# Altium schematic symbol library MCU_Microchip_PIC18.SchLib: 173 symbols (part 4 of 4)
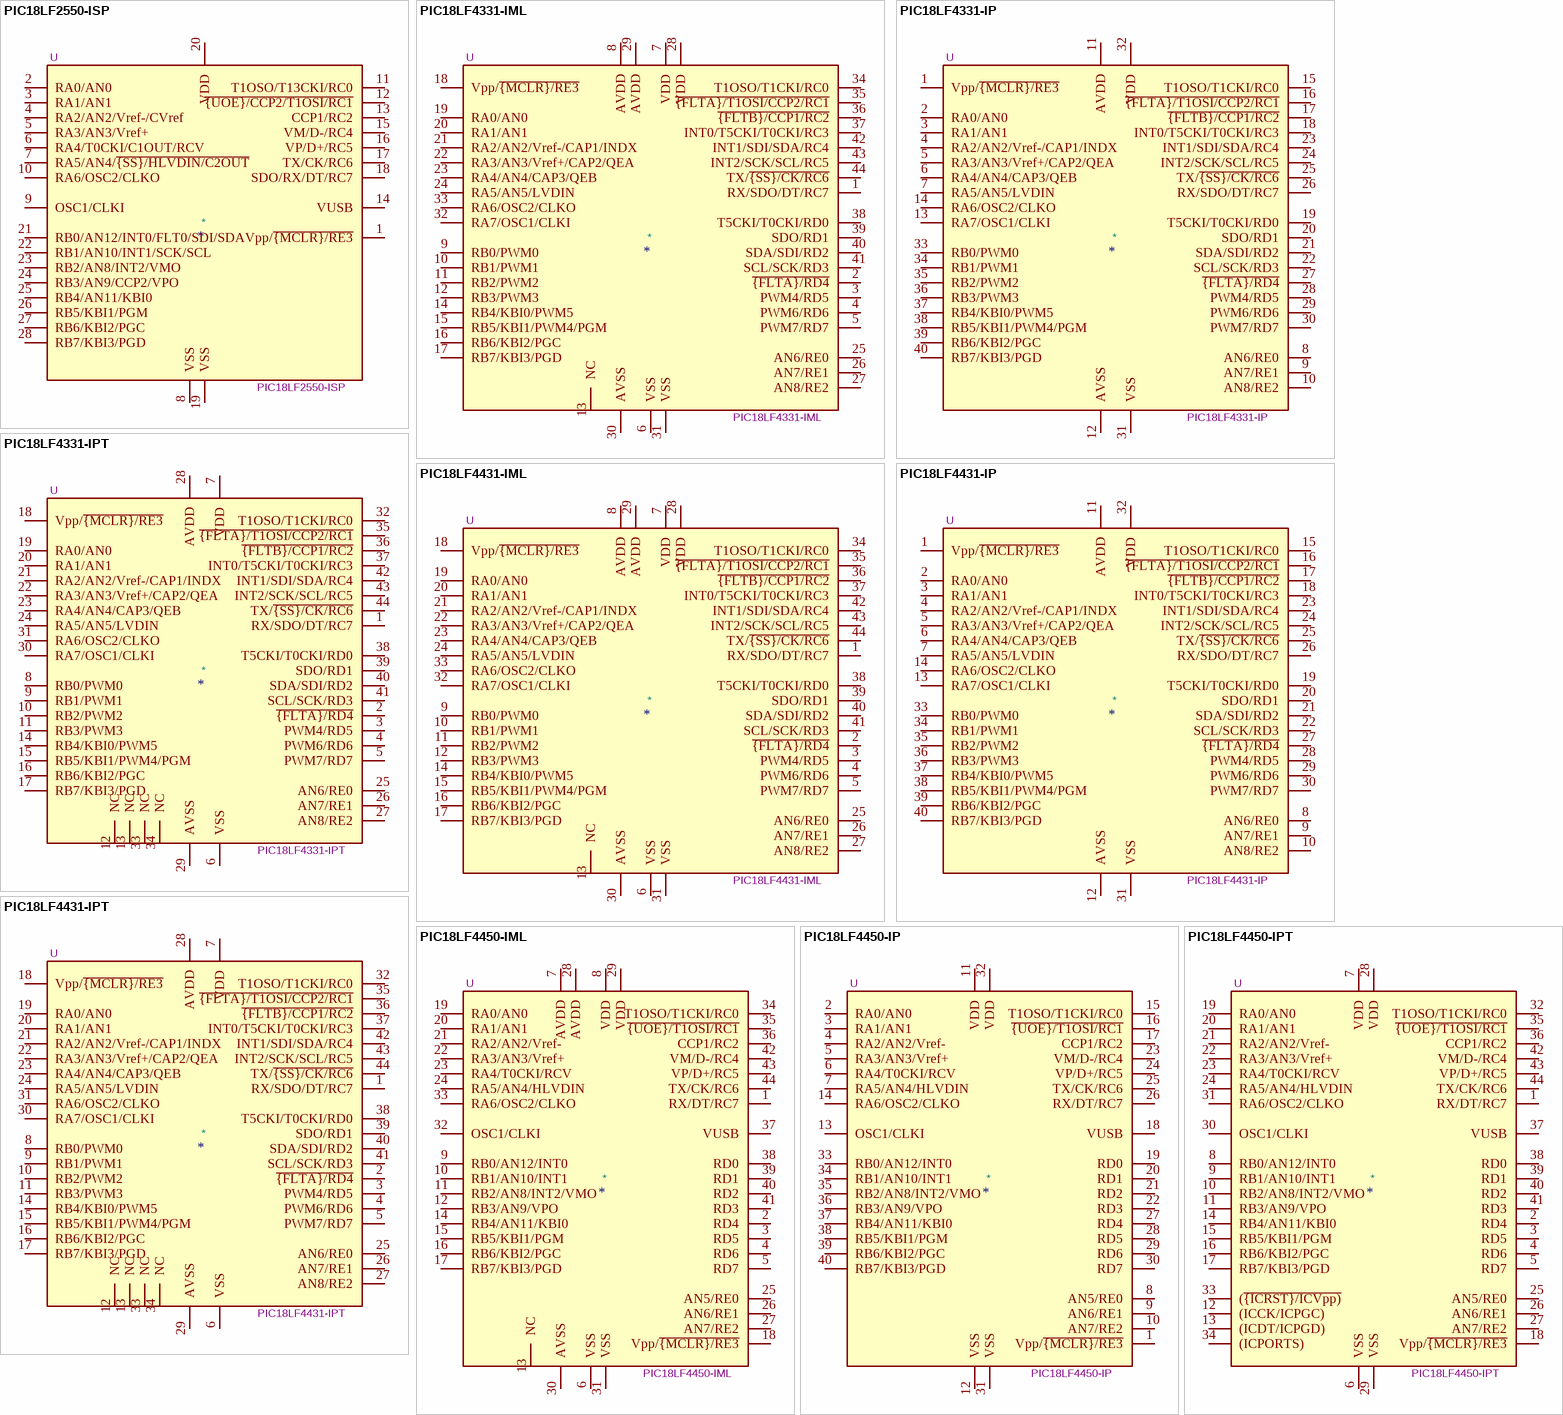
[diagram p19: symbols PIC18LF2550-ISP to PIC18LF4450-IPT]

## PIC18LF4331-IP
designator *  value PIC18LF4331-IP  Reference: U
8K Flash, 768B SRAM, 256B EEPROM, nanoWatt XLP, ADC, PWM, DIP40; ki_keywords: Flash-Based 8-Bit Microcontroller XLP; ki_fp_filters: DIP*W15.24* PDIP*W15.24*; Footprint: Package_DIP:DIP-40_W15.24mm; Datasheet: http://ww1.microchip.com/downloads/en/DeviceDoc/39616d.pdf; Description_: 8K Flash, 768B SRAM, 256B EEPROM, nanoWatt XLP, ADC, PWM, DIP40
pins: 1 Vpp/~{{MCLR}/RE3}, 2 RA0/AN0, 3 RA1/AN1, 4 RA2/AN2/Vref-/CAP1/INDX, 5 RA3/AN3/Vref+/CAP2/QEA, 6 RA4/AN4/CAP3/QEB, 7 RA5/AN5/LVDIN, 8 AN6/RE0, 9 AN7/RE1, 10 AN8/RE2, 11 AVDD, 12 AVSS, 13 RA7/OSC1/CLKI, 14 RA6/OSC2/CLKO, 15 T1OSO/T1CKI/RC0, 16 ~{{FLTA}/T1OSI/CCP2/RC1}, 17 ~{{FLTB}/CCP1/RC2}, 18 INT0/T5CKI/T0CKI/RC3, 19 T5CKI/T0CKI/RD0, 20 SDO/RD1, 21 SDA/SDI/RD2, 22 SCL/SCK/RD3, 23 INT1/SDI/SDA/RC4, 24 INT2/SCK/SCL/RC5, 25 TX/~{{SS}/CK/RC6}, 26 RX/SDO/DT/RC7, 27 ~{{FLTA}/RD4}, 28 PWM4/RD5, 29 PWM6/RD6, 30 PWM7/RD7, 31 VSS, 32 VDD, 33 RB0/PWM0, 34 RB1/PWM1, 35 RB2/PWM2, 36 RB3/PWM3, 37 RB4/KBI0/PWM5, 38 RB5/KBI1/PWM4/PGM, 39 RB6/KBI2/PGC, 40 RB7/KBI3/PGD

## PIC18LF4331-IPT
designator *  value PIC18LF4331-IPT  Reference: U
8K Flash, 768B SRAM, 256B EEPROM, nanoWatt XLP, ADC, PWM, TQFP44; ki_keywords: Flash-Based 8-Bit Microcontroller XLP; ki_fp_filters: TQFP*10x10mm*P0.8mm*; Footprint: Package_QFP:TQFP-44_10x10mm_P0.8mm; Datasheet: http://ww1.microchip.com/downloads/en/DeviceDoc/39616d.pdf; Description_: 8K Flash, 768B SRAM, 256B EEPROM, nanoWatt XLP, ADC, PWM, TQFP44
pins: 1 RX/SDO/DT/RC7, 2 ~{{FLTA}/RD4}, 3 PWM4/RD5, 4 PWM6/RD6, 5 PWM7/RD7, 6 VSS, 7 VDD, 8 RB0/PWM0, 9 RB1/PWM1, 10 RB2/PWM2, 11 RB3/PWM3, 12 NC, 13 NC, 14 RB4/KBI0/PWM5, 15 RB5/KBI1/PWM4/PGM, 16 RB6/KBI2/PGC, 17 RB7/KBI3/PGD, 18 Vpp/~{{MCLR}/RE3}, 19 RA0/AN0, 20 RA1/AN1, 21 RA2/AN2/Vref-/CAP1/INDX, 22 RA3/AN3/Vref+/CAP2/QEA, 23 RA4/AN4/CAP3/QEB, 24 RA5/AN5/LVDIN, 25 AN6/RE0, 26 AN7/RE1, 27 AN8/RE2, 28 AVDD, 29 AVSS, 30 RA7/OSC1/CLKI, 31 RA6/OSC2/CLKO, 32 T1OSO/T1CKI/RC0, 33 NC, 34 NC, 35 ~{{FLTA}/T1OSI/CCP2/RC1}, 36 ~{{FLTB}/CCP1/RC2}, 37 INT0/T5CKI/T0CKI/RC3, 38 T5CKI/T0CKI/RD0, 39 SDO/RD1, 40 SDA/SDI/RD2, 41 SCL/SCK/RD3, 42 INT1/SDI/SDA/RC4, 43 INT2/SCK/SCL/RC5, 44 TX/~{{SS}/CK/RC6}

## PIC18LF4431-IML
designator *  value PIC18LF4431-IML  Reference: U
16K Flash, 768B SRAM, 256B EEPROM, nanoWatt XLP, ADC, PWM, QFN44; ki_keywords: Flash-Based 8-Bit Microcontroller XLP; ki_fp_filters: QFN*1EP*8x8mm*P0.65mm*; Footprint: Package_DFN_QFN:QFN-44-1EP_8x8mm_P0.65mm_EP6.45x6.45mm; Datasheet: http://ww1.microchip.com/downloads/en/DeviceDoc/39616d.pdf; Description_: 16K Flash, 768B SRAM, 256B EEPROM, nanoWatt XLP, ADC, PWM, QFN44
pins: 1 RX/SDO/DT/RC7, 2 ~{{FLTA}/RD4}, 3 PWM4/RD5, 4 PWM6/RD6, 5 PWM7/RD7, 6 VSS, 7 VDD, 8 AVDD, 9 RB0/PWM0, 10 RB1/PWM1, 11 RB2/PWM2, 12 RB3/PWM3, 13 NC, 14 RB4/KBI0/PWM5, 15 RB5/KBI1/PWM4/PGM, 16 RB6/KBI2/PGC, 17 RB7/KBI3/PGD, 18 Vpp/~{{MCLR}/RE3}, 19 RA0/AN0, 20 RA1/AN1, 21 RA2/AN2/Vref-/CAP1/INDX, 22 RA3/AN3/Vref+/CAP2/QEA, 23 RA4/AN4/CAP3/QEB, 24 RA5/AN5/LVDIN, 25 AN6/RE0, 26 AN7/RE1, 27 AN8/RE2, 28 VDD, 29 AVDD, 30 AVSS, 31 VSS, 32 RA7/OSC1/CLKI, 33 RA6/OSC2/CLKO, 34 T1OSO/T1CKI/RC0, 35 ~{{FLTA}/T1OSI/CCP2/RC1}, 36 ~{{FLTB}/CCP1/RC2}, 37 INT0/T5CKI/T0CKI/RC3, 38 T5CKI/T0CKI/RD0, 39 SDO/RD1, 40 SDA/SDI/RD2, 41 SCL/SCK/RD3, 42 INT1/SDI/SDA/RC4, 43 INT2/SCK/SCL/RC5, 44 TX/~{{SS}/CK/RC6}

## PIC18LF4431-IP
designator *  value PIC18LF4431-IP  Reference: U
16K Flash, 768B SRAM, 256B EEPROM, nanoWatt XLP, ADC, PWM, DIP40; ki_keywords: Flash-Based 8-Bit Microcontroller XLP; ki_fp_filters: DIP*W15.24* PDIP*W15.24*; Footprint: Package_DIP:DIP-40_W15.24mm; Datasheet: http://ww1.microchip.com/downloads/en/DeviceDoc/39616d.pdf; Description_: 16K Flash, 768B SRAM, 256B EEPROM, nanoWatt XLP, ADC, PWM, DIP40
pins: 1 Vpp/~{{MCLR}/RE3}, 2 RA0/AN0, 3 RA1/AN1, 4 RA2/AN2/Vref-/CAP1/INDX, 5 RA3/AN3/Vref+/CAP2/QEA, 6 RA4/AN4/CAP3/QEB, 7 RA5/AN5/LVDIN, 8 AN6/RE0, 9 AN7/RE1, 10 AN8/RE2, 11 AVDD, 12 AVSS, 13 RA7/OSC1/CLKI, 14 RA6/OSC2/CLKO, 15 T1OSO/T1CKI/RC0, 16 ~{{FLTA}/T1OSI/CCP2/RC1}, 17 ~{{FLTB}/CCP1/RC2}, 18 INT0/T5CKI/T0CKI/RC3, 19 T5CKI/T0CKI/RD0, 20 SDO/RD1, 21 SDA/SDI/RD2, 22 SCL/SCK/RD3, 23 INT1/SDI/SDA/RC4, 24 INT2/SCK/SCL/RC5, 25 TX/~{{SS}/CK/RC6}, 26 RX/SDO/DT/RC7, 27 ~{{FLTA}/RD4}, 28 PWM4/RD5, 29 PWM6/RD6, 30 PWM7/RD7, 31 VSS, 32 VDD, 33 RB0/PWM0, 34 RB1/PWM1, 35 RB2/PWM2, 36 RB3/PWM3, 37 RB4/KBI0/PWM5, 38 RB5/KBI1/PWM4/PGM, 39 RB6/KBI2/PGC, 40 RB7/KBI3/PGD

## PIC18LF4431-IPT
designator *  value PIC18LF4431-IPT  Reference: U
16K Flash, 768B SRAM, 256B EEPROM, nanoWatt XLP, ADC, PWM, TQFP44; ki_keywords: Flash-Based 8-Bit Microcontroller XLP; ki_fp_filters: TQFP*10x10mm*P0.8mm*; Footprint: Package_QFP:TQFP-44_10x10mm_P0.8mm; Datasheet: http://ww1.microchip.com/downloads/en/DeviceDoc/39616d.pdf; Description_: 16K Flash, 768B SRAM, 256B EEPROM, nanoWatt XLP, ADC, PWM, TQFP44
pins: 1 RX/SDO/DT/RC7, 2 ~{{FLTA}/RD4}, 3 PWM4/RD5, 4 PWM6/RD6, 5 PWM7/RD7, 6 VSS, 7 VDD, 8 RB0/PWM0, 9 RB1/PWM1, 10 RB2/PWM2, 11 RB3/PWM3, 12 NC, 13 NC, 14 RB4/KBI0/PWM5, 15 RB5/KBI1/PWM4/PGM, 16 RB6/KBI2/PGC, 17 RB7/KBI3/PGD, 18 Vpp/~{{MCLR}/RE3}, 19 RA0/AN0, 20 RA1/AN1, 21 RA2/AN2/Vref-/CAP1/INDX, 22 RA3/AN3/Vref+/CAP2/QEA, 23 RA4/AN4/CAP3/QEB, 24 RA5/AN5/LVDIN, 25 AN6/RE0, 26 AN7/RE1, 27 AN8/RE2, 28 AVDD, 29 AVSS, 30 RA7/OSC1/CLKI, 31 RA6/OSC2/CLKO, 32 T1OSO/T1CKI/RC0, 33 NC, 34 NC, 35 ~{{FLTA}/T1OSI/CCP2/RC1}, 36 ~{{FLTB}/CCP1/RC2}, 37 INT0/T5CKI/T0CKI/RC3, 38 T5CKI/T0CKI/RD0, 39 SDO/RD1, 40 SDA/SDI/RD2, 41 SCL/SCK/RD3, 42 INT1/SDI/SDA/RC4, 43 INT2/SCK/SCL/RC5, 44 TX/~{{SS}/CK/RC6}

## PIC18LF4450-IML
designator *  value PIC18LF4450-IML  Reference: U
16K Flash, 8K SRAM, USB, nanoWatt XLP, QFN44; ki_keywords: Flash-Based 8-Bit Microcontroller XLP; ki_fp_filters: QFN*1EP*8x8mm*P0.65mm*; Footprint: Package_DFN_QFN:QFN-44-1EP_8x8mm_P0.65mm_EP6.45x6.45mm; Datasheet: http://ww1.microchip.com/downloads/en/DeviceDoc/39760d.pdf; Description_: 16K Flash, 8K SRAM, USB, nanoWatt XLP, QFN44
pins: 1 RX/DT/RC7, 2 RD4, 3 RD5, 4 RD6, 5 RD7, 6 VSS, 7 AVDD, 8 VDD, 9 RB0/AN12/INT0, 10 RB1/AN10/INT1, 11 RB2/AN8/INT2/VMO, 12 RB3/AN9/VPO, 13 NC, 14 RB4/AN11/KBI0, 15 RB5/KBI1/PGM, 16 RB6/KBI2/PGC, 17 RB7/KBI3/PGD, 18 Vpp/~{{MCLR}/RE3}, 19 RA0/AN0, 20 RA1/AN1, 21 RA2/AN2/Vref-, 22 RA3/AN3/Vref+, 23 RA4/T0CKI/RCV, 24 RA5/AN4/HLVDIN, 25 AN5/RE0, 26 AN6/RE1, 27 AN7/RE2, 28 AVDD, 29 VDD, 30 AVSS, 31 VSS, 32 OSC1/CLKI, 33 RA6/OSC2/CLKO, 34 T1OSO/T1CKI/RC0, 35 ~{{UOE}/T1OSI/RC1}, 36 CCP1/RC2, 37 VUSB, 38 RD0, 39 RD1, 40 RD2, 41 RD3, 42 VM/D-/RC4, 43 VP/D+/RC5, 44 TX/CK/RC6

## PIC18LF4450-IP
designator *  value PIC18LF4450-IP  Reference: U
16K Flash, 8K SRAM, USB, nanoWatt XLP, PDIP40; ki_keywords: Flash-Based 8-Bit Microcontroller XLP; ki_fp_filters: DIP*W15.24mm* PDIP*W15.24mm*; Footprint: Package_DIP:DIP-40_W15.24mm; Datasheet: http://ww1.microchip.com/downloads/en/DeviceDoc/39760d.pdf; Description_: 16K Flash, 8K SRAM, USB, nanoWatt XLP, PDIP40
pins: 1 Vpp/~{{MCLR}/RE3}, 2 RA0/AN0, 3 RA1/AN1, 4 RA2/AN2/Vref-, 5 RA3/AN3/Vref+, 6 RA4/T0CKI/RCV, 7 RA5/AN4/HLVDIN, 8 AN5/RE0, 9 AN6/RE1, 10 AN7/RE2, 11 VDD, 12 VSS, 13 OSC1/CLKI, 14 RA6/OSC2/CLKO, 15 T1OSO/T1CKI/RC0, 16 ~{{UOE}/T1OSI/RC1}, 17 CCP1/RC2, 18 VUSB, 19 RD0, 20 RD1, 21 RD2, 22 RD3, 23 VM/D-/RC4, 24 VP/D+/RC5, 25 TX/CK/RC6, 26 RX/DT/RC7, 27 RD4, 28 RD5, 29 RD6, 30 RD7, 31 VSS, 32 VDD, 33 RB0/AN12/INT0, 34 RB1/AN10/INT1, 35 RB2/AN8/INT2/VMO, 36 RB3/AN9/VPO, 37 RB4/AN11/KBI0, 38 RB5/KBI1/PGM, 39 RB6/KBI2/PGC, 40 RB7/KBI3/PGD

## PIC18LF4450-IPT
designator *  value PIC18LF4450-IPT  Reference: U
16K Flash, 8K SRAM, USB, nanoWatt XLP, TQFP44; ki_keywords: Flash-Based 8-Bit Microcontroller XLP; ki_fp_filters: TQFP*10x10mm*P0.8mm*; Footprint: Package_QFP:TQFP-44_10x10mm_P0.8mm; Datasheet: http://ww1.microchip.com/downloads/en/DeviceDoc/39760d.pdf; Description_: 16K Flash, 8K SRAM, USB, nanoWatt XLP, TQFP44
pins: 1 RX/DT/RC7, 2 RD4, 3 RD5, 4 RD6, 5 RD7, 6 VSS, 7 VDD, 8 RB0/AN12/INT0, 9 RB1/AN10/INT1, 10 RB2/AN8/INT2/VMO, 11 RB3/AN9/VPO, 12 (ICCK/ICPGC), 13 (ICDT/ICPGD), 14 RB4/AN11/KBI0, 15 RB5/KBI1/PGM, 16 RB6/KBI2/PGC, 17 RB7/KBI3/PGD, 18 Vpp/~{{MCLR}/RE3}, 19 RA0/AN0, 20 RA1/AN1, 21 RA2/AN2/Vref-, 22 RA3/AN3/Vref+, 23 RA4/T0CKI/RCV, 24 RA5/AN4/HLVDIN, 25 AN5/RE0, 26 AN6/RE1, 27 AN7/RE2, 28 VDD, 29 VSS, 30 OSC1/CLKI, 31 RA6/OSC2/CLKO, 32 T1OSO/T1CKI/RC0, 33 (~{{ICRST}/ICVpp)}, 34 (ICPORTS), 35 ~{{UOE}/T1OSI/RC1}, 36 CCP1/RC2, 37 VUSB, 38 RD0, 39 RD1, 40 RD2, 41 RD3, 42 VM/D-/RC4, 43 VP/D+/RC5, 44 TX/CK/RC6

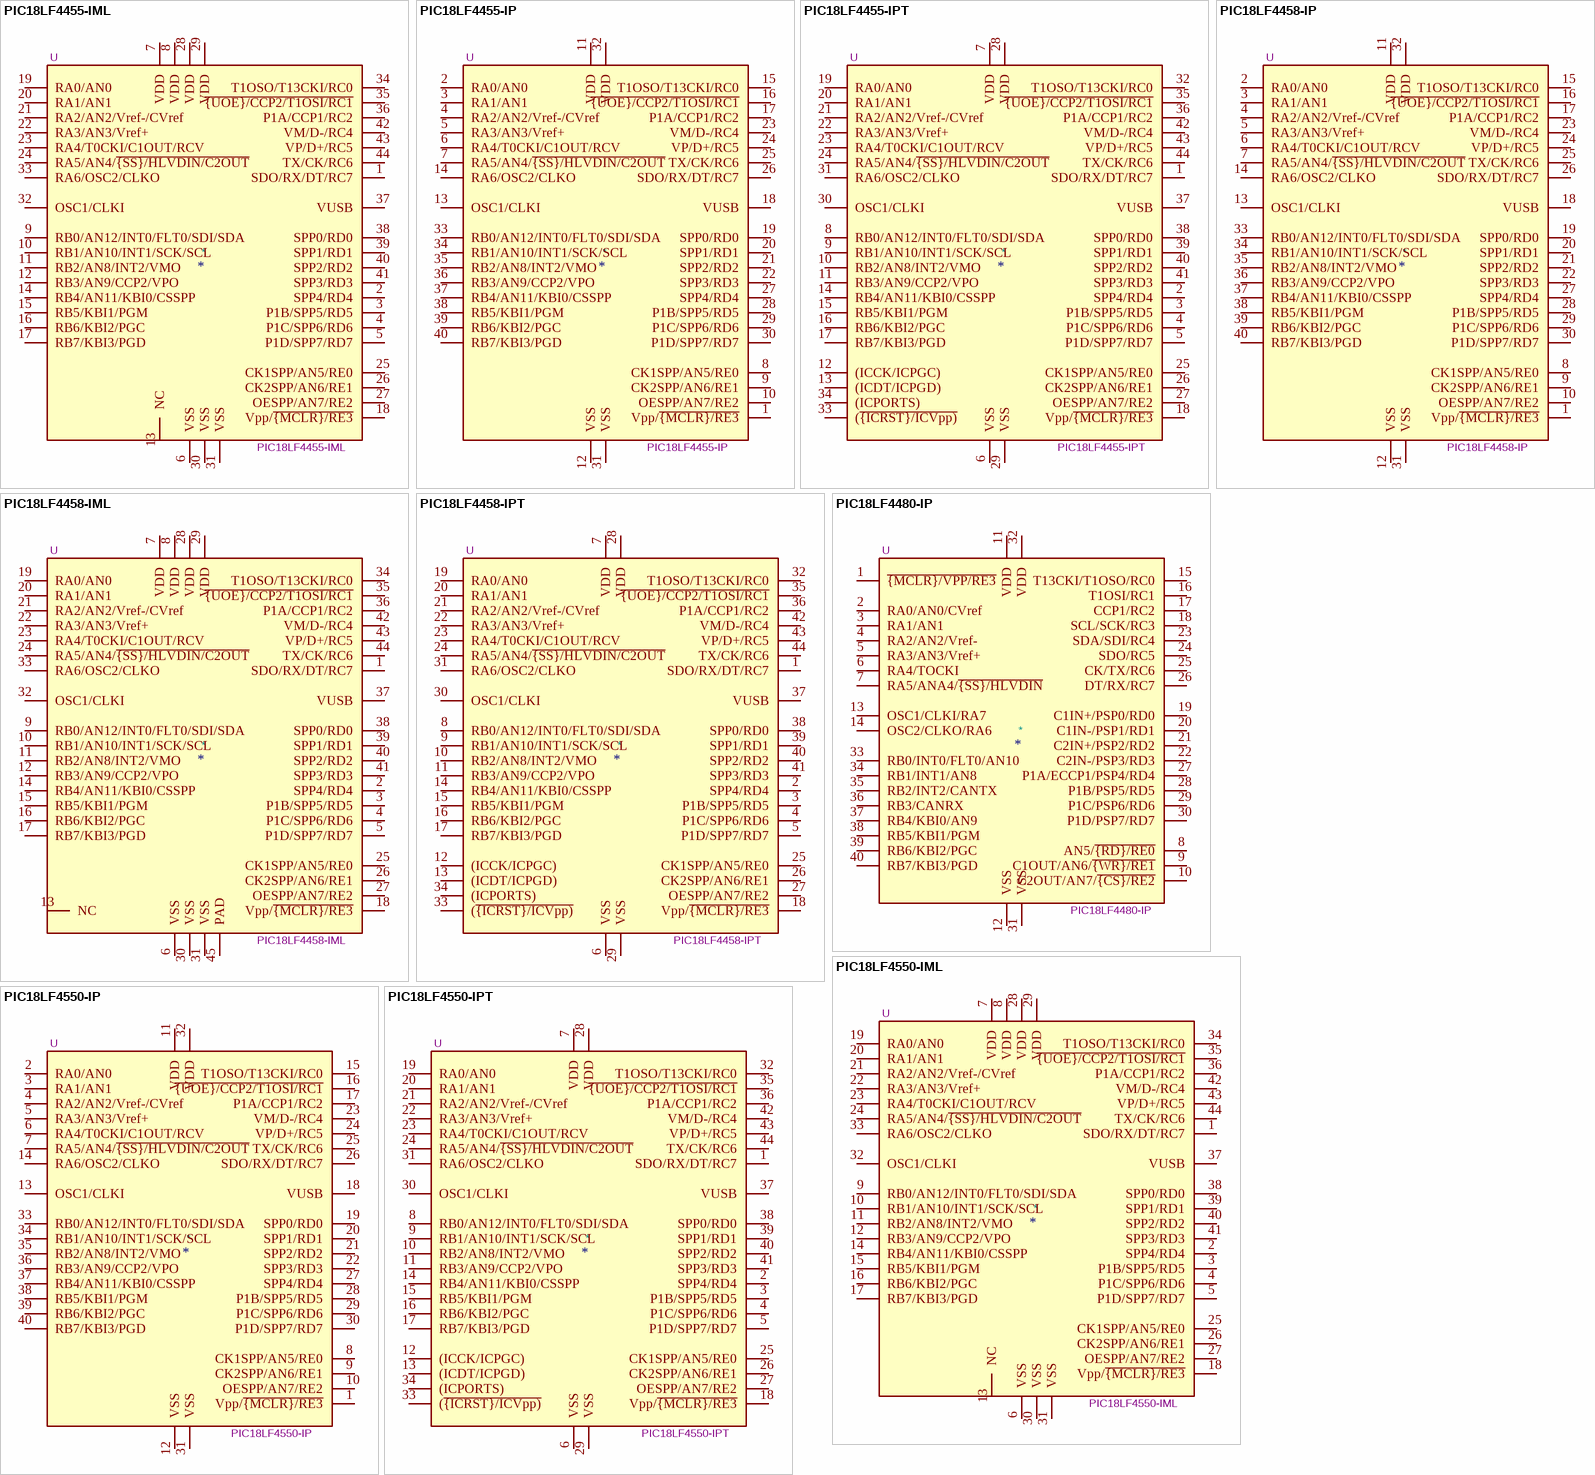
[diagram p15: symbols PIC18LF4455-IML to PIC18LF4550-IPT]

## PIC18LF4455-IML
designator *  value PIC18LF4455-IML  Reference: U
24K Flash, 2K SRAM, 256 EEPROM, USB, nanoWatt XLP, QFN44; ki_keywords: Flash-Based 8-Bit Microcontroller XLP; ki_fp_filters: QFN*1EP*8x8mm*P0.65mm*; Footprint: Package_DFN_QFN:QFN-44-1EP_8x8mm_P0.65mm_EP6.45x6.45mm; Datasheet: http://ww1.microchip.com/downloads/en/DeviceDoc/39760d.pdf; Description_: 24K Flash, 2K SRAM, 256 EEPROM, USB, nanoWatt XLP, QFN44
pins: 1 SDO/RX/DT/RC7, 2 SPP4/RD4, 3 P1B/SPP5/RD5, 4 P1C/SPP6/RD6, 5 P1D/SPP7/RD7, 6 VSS, 7 VDD, 8 VDD, 9 RB0/AN12/INT0/FLT0/SDI/SDA, 10 RB1/AN10/INT1/SCK/SCL, 11 RB2/AN8/INT2/VMO, 12 RB3/AN9/CCP2/VPO, 13 NC, 14 RB4/AN11/KBI0/CSSPP, 15 RB5/KBI1/PGM, 16 RB6/KBI2/PGC, 17 RB7/KBI3/PGD, 18 Vpp/~{{MCLR}/RE3}, 19 RA0/AN0, 20 RA1/AN1, 21 RA2/AN2/Vref-/CVref, 22 RA3/AN3/Vref+, 23 RA4/T0CKI/C1OUT/RCV, 24 RA5/AN4/~{{SS}/HLVDIN/C2OUT}, 25 CK1SPP/AN5/RE0, 26 CK2SPP/AN6/RE1, 27 OESPP/AN7/RE2, 28 VDD, 29 VDD, 30 VSS, 31 VSS, 32 OSC1/CLKI, 33 RA6/OSC2/CLKO, 34 T1OSO/T13CKI/RC0, 35 ~{{UOE}/CCP2/T1OSI/RC1}, 36 P1A/CCP1/RC2, 37 VUSB, 38 SPP0/RD0, 39 SPP1/RD1, 40 SPP2/RD2, 41 SPP3/RD3, 42 VM/D-/RC4, 43 VP/D+/RC5, 44 TX/CK/RC6

## PIC18LF4455-IP
designator *  value PIC18LF4455-IP  Reference: U
24K Flash, 2K SRAM, 256 EEPROM, USB, nanoWatt XLP, DIP40; ki_keywords: Flash-Based 8-Bit Microcontroller XLP; ki_fp_filters: DIP*W15.24mm* PDIP*W15.24mm*; Footprint: Package_DIP:DIP-40_W15.24mm; Datasheet: http://ww1.microchip.com/downloads/en/DeviceDoc/39760d.pdf; Description_: 24K Flash, 2K SRAM, 256 EEPROM, USB, nanoWatt XLP, DIP40
pins: 1 Vpp/~{{MCLR}/RE3}, 2 RA0/AN0, 3 RA1/AN1, 4 RA2/AN2/Vref-/CVref, 5 RA3/AN3/Vref+, 6 RA4/T0CKI/C1OUT/RCV, 7 RA5/AN4/~{{SS}/HLVDIN/C2OUT}, 8 CK1SPP/AN5/RE0, 9 CK2SPP/AN6/RE1, 10 OESPP/AN7/RE2, 11 VDD, 12 VSS, 13 OSC1/CLKI, 14 RA6/OSC2/CLKO, 15 T1OSO/T13CKI/RC0, 16 ~{{UOE}/CCP2/T1OSI/RC1}, 17 P1A/CCP1/RC2, 18 VUSB, 19 SPP0/RD0, 20 SPP1/RD1, 21 SPP2/RD2, 22 SPP3/RD3, 23 VM/D-/RC4, 24 VP/D+/RC5, 25 TX/CK/RC6, 26 SDO/RX/DT/RC7, 27 SPP4/RD4, 28 P1B/SPP5/RD5, 29 P1C/SPP6/RD6, 30 P1D/SPP7/RD7, 31 VSS, 32 VDD, 33 RB0/AN12/INT0/FLT0/SDI/SDA, 34 RB1/AN10/INT1/SCK/SCL, 35 RB2/AN8/INT2/VMO, 36 RB3/AN9/CCP2/VPO, 37 RB4/AN11/KBI0/CSSPP, 38 RB5/KBI1/PGM, 39 RB6/KBI2/PGC, 40 RB7/KBI3/PGD

## PIC18LF4455-IPT
designator *  value PIC18LF4455-IPT  Reference: U
24K Flash, 2K SRAM, 256 EEPROM, USB, nanoWatt XLP, TQFP44; ki_keywords: Flash-Based 8-Bit Microcontroller XLP; ki_fp_filters: TQFP*10x10mm*P0.8mm*; Footprint: Package_QFP:TQFP-44_10x10mm_P0.8mm; Datasheet: http://ww1.microchip.com/downloads/en/DeviceDoc/39760d.pdf; Description_: 24K Flash, 2K SRAM, 256 EEPROM, USB, nanoWatt XLP, TQFP44
pins: 1 SDO/RX/DT/RC7, 2 SPP4/RD4, 3 P1B/SPP5/RD5, 4 P1C/SPP6/RD6, 5 P1D/SPP7/RD7, 6 VSS, 7 VDD, 8 RB0/AN12/INT0/FLT0/SDI/SDA, 9 RB1/AN10/INT1/SCK/SCL, 10 RB2/AN8/INT2/VMO, 11 RB3/AN9/CCP2/VPO, 12 (ICCK/ICPGC), 13 (ICDT/ICPGD), 14 RB4/AN11/KBI0/CSSPP, 15 RB5/KBI1/PGM, 16 RB6/KBI2/PGC, 17 RB7/KBI3/PGD, 18 Vpp/~{{MCLR}/RE3}, 19 RA0/AN0, 20 RA1/AN1, 21 RA2/AN2/Vref-/CVref, 22 RA3/AN3/Vref+, 23 RA4/T0CKI/C1OUT/RCV, 24 RA5/AN4/~{{SS}/HLVDIN/C2OUT}, 25 CK1SPP/AN5/RE0, 26 CK2SPP/AN6/RE1, 27 OESPP/AN7/RE2, 28 VDD, 29 VSS, 30 OSC1/CLKI, 31 RA6/OSC2/CLKO, 32 T1OSO/T13CKI/RC0, 33 (~{{ICRST}/ICVpp)}, 34 (ICPORTS), 35 ~{{UOE}/CCP2/T1OSI/RC1}, 36 P1A/CCP1/RC2, 37 VUSB, 38 SPP0/RD0, 39 SPP1/RD1, 40 SPP2/RD2, 41 SPP3/RD3, 42 VM/D-/RC4, 43 VP/D+/RC5, 44 TX/CK/RC6

## PIC18LF4458-IML
designator *  value PIC18LF4458-IML  Reference: U
24K Flash, 2K SRAM, 256 EEPROM, USB, 12-Bit A/D, nanoWatt XLP, QFN44; ki_keywords: Flash-Based 8-Bit Microcontroller XLP; ki_fp_filters: QFN*1EP*8x8mm*P0.65mm*; Footprint: Package_DFN_QFN:QFN-44-1EP_8x8mm_P0.65mm_EP6.45x6.45mm; Datasheet: http://ww1.microchip.com/downloads/en/DeviceDoc/39887c.pdf; Description_: 24K Flash, 2K SRAM, 256 EEPROM, USB, 12-Bit A/D, nanoWatt XLP, QFN44
pins: 1 SDO/RX/DT/RC7, 2 SPP4/RD4, 3 P1B/SPP5/RD5, 4 P1C/SPP6/RD6, 5 P1D/SPP7/RD7, 6 VSS, 7 VDD, 8 VDD, 9 RB0/AN12/INT0/FLT0/SDI/SDA, 10 RB1/AN10/INT1/SCK/SCL, 11 RB2/AN8/INT2/VMO, 12 RB3/AN9/CCP2/VPO, 13 NC, 14 RB4/AN11/KBI0/CSSPP, 15 RB5/KBI1/PGM, 16 RB6/KBI2/PGC, 17 RB7/KBI3/PGD, 18 Vpp/~{{MCLR}/RE3}, 19 RA0/AN0, 20 RA1/AN1, 21 RA2/AN2/Vref-/CVref, 22 RA3/AN3/Vref+, 23 RA4/T0CKI/C1OUT/RCV, 24 RA5/AN4/~{{SS}/HLVDIN/C2OUT}, 25 CK1SPP/AN5/RE0, 26 CK2SPP/AN6/RE1, 27 OESPP/AN7/RE2, 28 VDD, 29 VDD, 30 VSS, 31 VSS, 32 OSC1/CLKI, 33 RA6/OSC2/CLKO, 34 T1OSO/T13CKI/RC0, 35 ~{{UOE}/CCP2/T1OSI/RC1}, 36 P1A/CCP1/RC2, 37 VUSB, 38 SPP0/RD0, 39 SPP1/RD1, 40 SPP2/RD2, 41 SPP3/RD3, 42 VM/D-/RC4, 43 VP/D+/RC5, 44 TX/CK/RC6, 45 PAD

## PIC18LF4458-IP
designator *  value PIC18LF4458-IP  Reference: U
24K Flash, 2K SRAM, 256 EEPROM, USB, 12-Bit A/D, nanoWatt XLP, DIP40; ki_keywords: Flash-Based 8-Bit Microcontroller XLP; ki_fp_filters: DIP*W15.24mm* PDIP*W15.24mm*; Footprint: Package_DIP:DIP-40_W15.24mm; Datasheet: http://ww1.microchip.com/downloads/en/DeviceDoc/39887c.pdf; Description_: 24K Flash, 2K SRAM, 256 EEPROM, USB, 12-Bit A/D, nanoWatt XLP, DIP40
pins: 1 Vpp/~{{MCLR}/RE3}, 2 RA0/AN0, 3 RA1/AN1, 4 RA2/AN2/Vref-/CVref, 5 RA3/AN3/Vref+, 6 RA4/T0CKI/C1OUT/RCV, 7 RA5/AN4/~{{SS}/HLVDIN/C2OUT}, 8 CK1SPP/AN5/RE0, 9 CK2SPP/AN6/RE1, 10 OESPP/AN7/RE2, 11 VDD, 12 VSS, 13 OSC1/CLKI, 14 RA6/OSC2/CLKO, 15 T1OSO/T13CKI/RC0, 16 ~{{UOE}/CCP2/T1OSI/RC1}, 17 P1A/CCP1/RC2, 18 VUSB, 19 SPP0/RD0, 20 SPP1/RD1, 21 SPP2/RD2, 22 SPP3/RD3, 23 VM/D-/RC4, 24 VP/D+/RC5, 25 TX/CK/RC6, 26 SDO/RX/DT/RC7, 27 SPP4/RD4, 28 P1B/SPP5/RD5, 29 P1C/SPP6/RD6, 30 P1D/SPP7/RD7, 31 VSS, 32 VDD, 33 RB0/AN12/INT0/FLT0/SDI/SDA, 34 RB1/AN10/INT1/SCK/SCL, 35 RB2/AN8/INT2/VMO, 36 RB3/AN9/CCP2/VPO, 37 RB4/AN11/KBI0/CSSPP, 38 RB5/KBI1/PGM, 39 RB6/KBI2/PGC, 40 RB7/KBI3/PGD

## PIC18LF4458-IPT
designator *  value PIC18LF4458-IPT  Reference: U
24K Flash, 2K SRAM, 256 EEPROM, USB, 12-Bit A/D, nanoWatt XLP, TQFP44; ki_keywords: Flash-Based 8-Bit Microcontroller XLP; ki_fp_filters: TQFP*10x10mm*P0.8mm*; Footprint: Package_QFP:TQFP-44_10x10mm_P0.8mm; Datasheet: http://ww1.microchip.com/downloads/en/DeviceDoc/39887c.pdf; Description_: 24K Flash, 2K SRAM, 256 EEPROM, USB, 12-Bit A/D, nanoWatt XLP, TQFP44
pins: 1 SDO/RX/DT/RC7, 2 SPP4/RD4, 3 P1B/SPP5/RD5, 4 P1C/SPP6/RD6, 5 P1D/SPP7/RD7, 6 VSS, 7 VDD, 8 RB0/AN12/INT0/FLT0/SDI/SDA, 9 RB1/AN10/INT1/SCK/SCL, 10 RB2/AN8/INT2/VMO, 11 RB3/AN9/CCP2/VPO, 12 (ICCK/ICPGC), 13 (ICDT/ICPGD), 14 RB4/AN11/KBI0/CSSPP, 15 RB5/KBI1/PGM, 16 RB6/KBI2/PGC, 17 RB7/KBI3/PGD, 18 Vpp/~{{MCLR}/RE3}, 19 RA0/AN0, 20 RA1/AN1, 21 RA2/AN2/Vref-/CVref, 22 RA3/AN3/Vref+, 23 RA4/T0CKI/C1OUT/RCV, 24 RA5/AN4/~{{SS}/HLVDIN/C2OUT}, 25 CK1SPP/AN5/RE0, 26 CK2SPP/AN6/RE1, 27 OESPP/AN7/RE2, 28 VDD, 29 VSS, 30 OSC1/CLKI, 31 RA6/OSC2/CLKO, 32 T1OSO/T13CKI/RC0, 33 (~{{ICRST}/ICVpp)}, 34 (ICPORTS), 35 ~{{UOE}/CCP2/T1OSI/RC1}, 36 P1A/CCP1/RC2, 37 VUSB, 38 SPP0/RD0, 39 SPP1/RD1, 40 SPP2/RD2, 41 SPP3/RD3, 42 VM/D-/RC4, 43 VP/D+/RC5, 44 TX/CK/RC6

## PIC18LF4480-IP
designator *  value PIC18LF4480-IP  Reference: U
32K Flash, 768B SRAM, 256 EEPROM, ECAN, DIP40; ki_keywords: Flash-Based 8-Bit Microcontroller CAN; ki_fp_filters: DIP*W15.24mm* PDIP*W15.24mm*; Footprint: Package_DIP:DIP-40_W15.24mm; Datasheet: http://ww1.microchip.com/downloads/en/DeviceDoc/39637d.pdf; Description_: 32K Flash, 768B SRAM, 256 EEPROM, ECAN, DIP40
pins: 1 ~{{MCLR}/VPP/RE3}, 2 RA0/AN0/CVref, 3 RA1/AN1, 4 RA2/AN2/Vref-, 5 RA3/AN3/Vref+, 6 RA4/TOCKI, 7 RA5/ANA4/~{{SS}/HLVDIN}, 8 AN5/~{{RD}/RE0}, 9 C1OUT/AN6/~{{WR}/RE1}, 10 C2OUT/AN7/~{{CS}/RE2}, 11 VDD, 12 VSS, 13 OSC1/CLKI/RA7, 14 OSC2/CLKO/RA6, 15 T13CKI/T1OSO/RC0, 16 T1OSI/RC1, 17 CCP1/RC2, 18 SCL/SCK/RC3, 19 C1IN+/PSP0/RD0, 20 C1IN-/PSP1/RD1, 21 C2IN+/PSP2/RD2, 22 C2IN-/PSP3/RD3, 23 SDA/SDI/RC4, 24 SDO/RC5, 25 CK/TX/RC6, 26 DT/RX/RC7, 27 P1A/ECCP1/PSP4/RD4, 28 P1B/PSP5/RD5, 29 P1C/PSP6/RD6, 30 P1D/PSP7/RD7, 31 VSS, 32 VDD, 33 RB0/INT0/FLT0/AN10, 34 RB1/INT1/AN8, 35 RB2/INT2/CANTX, 36 RB3/CANRX, 37 RB4/KBI0/AN9, 38 RB5/KBI1/PGM, 39 RB6/KBI2/PGC, 40 RB7/KBI3/PGD

## PIC18LF4550-IML
designator *  value PIC18LF4550-IML  Reference: U
32K Flash, 2K SRAM, 256 EEPROM, USB, nanoWatt XLP, QFN44; ki_keywords: Flash-Based 8-Bit Microcontroller XLP; ki_fp_filters: QFN*1EP*8x8mm*P0.65mm*; Footprint: Package_DFN_QFN:QFN-44-1EP_8x8mm_P0.65mm_EP6.45x6.45mm; Datasheet: http://ww1.microchip.com/downloads/en/DeviceDoc/39760d.pdf; Description_: 32K Flash, 2K SRAM, 256 EEPROM, USB, nanoWatt XLP, QFN44
pins: 1 SDO/RX/DT/RC7, 2 SPP4/RD4, 3 P1B/SPP5/RD5, 4 P1C/SPP6/RD6, 5 P1D/SPP7/RD7, 6 VSS, 7 VDD, 8 VDD, 9 RB0/AN12/INT0/FLT0/SDI/SDA, 10 RB1/AN10/INT1/SCK/SCL, 11 RB2/AN8/INT2/VMO, 12 RB3/AN9/CCP2/VPO, 13 NC, 14 RB4/AN11/KBI0/CSSPP, 15 RB5/KBI1/PGM, 16 RB6/KBI2/PGC, 17 RB7/KBI3/PGD, 18 Vpp/~{{MCLR}/RE3}, 19 RA0/AN0, 20 RA1/AN1, 21 RA2/AN2/Vref-/CVref, 22 RA3/AN3/Vref+, 23 RA4/T0CKI/C1OUT/RCV, 24 RA5/AN4/~{{SS}/HLVDIN/C2OUT}, 25 CK1SPP/AN5/RE0, 26 CK2SPP/AN6/RE1, 27 OESPP/AN7/RE2, 28 VDD, 29 VDD, 30 VSS, 31 VSS, 32 OSC1/CLKI, 33 RA6/OSC2/CLKO, 34 T1OSO/T13CKI/RC0, 35 ~{{UOE}/CCP2/T1OSI/RC1}, 36 P1A/CCP1/RC2, 37 VUSB, 38 SPP0/RD0, 39 SPP1/RD1, 40 SPP2/RD2, 41 SPP3/RD3, 42 VM/D-/RC4, 43 VP/D+/RC5, 44 TX/CK/RC6

## PIC18LF4550-IP
designator *  value PIC18LF4550-IP  Reference: U
32K Flash, 2K SRAM, 256 EEPROM, USB, nanoWatt XLP, DIP40; ki_keywords: Flash-Based 8-Bit Microcontroller XLP; ki_fp_filters: DIP*W15.24mm* PDIP*W15.24mm*; Footprint: Package_DIP:DIP-40_W15.24mm; Datasheet: http://ww1.microchip.com/downloads/en/DeviceDoc/39760d.pdf; Description_: 32K Flash, 2K SRAM, 256 EEPROM, USB, nanoWatt XLP, DIP40
pins: 1 Vpp/~{{MCLR}/RE3}, 2 RA0/AN0, 3 RA1/AN1, 4 RA2/AN2/Vref-/CVref, 5 RA3/AN3/Vref+, 6 RA4/T0CKI/C1OUT/RCV, 7 RA5/AN4/~{{SS}/HLVDIN/C2OUT}, 8 CK1SPP/AN5/RE0, 9 CK2SPP/AN6/RE1, 10 OESPP/AN7/RE2, 11 VDD, 12 VSS, 13 OSC1/CLKI, 14 RA6/OSC2/CLKO, 15 T1OSO/T13CKI/RC0, 16 ~{{UOE}/CCP2/T1OSI/RC1}, 17 P1A/CCP1/RC2, 18 VUSB, 19 SPP0/RD0, 20 SPP1/RD1, 21 SPP2/RD2, 22 SPP3/RD3, 23 VM/D-/RC4, 24 VP/D+/RC5, 25 TX/CK/RC6, 26 SDO/RX/DT/RC7, 27 SPP4/RD4, 28 P1B/SPP5/RD5, 29 P1C/SPP6/RD6, 30 P1D/SPP7/RD7, 31 VSS, 32 VDD, 33 RB0/AN12/INT0/FLT0/SDI/SDA, 34 RB1/AN10/INT1/SCK/SCL, 35 RB2/AN8/INT2/VMO, 36 RB3/AN9/CCP2/VPO, 37 RB4/AN11/KBI0/CSSPP, 38 RB5/KBI1/PGM, 39 RB6/KBI2/PGC, 40 RB7/KBI3/PGD

## PIC18LF4550-IPT
designator *  value PIC18LF4550-IPT  Reference: U
32K Flash, 2K SRAM, 256 EEPROM, USB, nanoWatt XLP, TQFP44; ki_keywords: Flash-Based 8-Bit Microcontroller XLP; ki_fp_filters: TQFP*10x10mm*P0.8mm*; Footprint: Package_QFP:TQFP-44_10x10mm_P0.8mm; Datasheet: http://ww1.microchip.com/downloads/en/DeviceDoc/39760d.pdf; Description_: 32K Flash, 2K SRAM, 256 EEPROM, USB, nanoWatt XLP, TQFP44
pins: 1 SDO/RX/DT/RC7, 2 SPP4/RD4, 3 P1B/SPP5/RD5, 4 P1C/SPP6/RD6, 5 P1D/SPP7/RD7, 6 VSS, 7 VDD, 8 RB0/AN12/INT0/FLT0/SDI/SDA, 9 RB1/AN10/INT1/SCK/SCL, 10 RB2/AN8/INT2/VMO, 11 RB3/AN9/CCP2/VPO, 12 (ICCK/ICPGC), 13 (ICDT/ICPGD), 14 RB4/AN11/KBI0/CSSPP, 15 RB5/KBI1/PGM, 16 RB6/KBI2/PGC, 17 RB7/KBI3/PGD, 18 Vpp/~{{MCLR}/RE3}, 19 RA0/AN0, 20 RA1/AN1, 21 RA2/AN2/Vref-/CVref, 22 RA3/AN3/Vref+, 23 RA4/T0CKI/C1OUT/RCV, 24 RA5/AN4/~{{SS}/HLVDIN/C2OUT}, 25 CK1SPP/AN5/RE0, 26 CK2SPP/AN6/RE1, 27 OESPP/AN7/RE2, 28 VDD, 29 VSS, 30 OSC1/CLKI, 31 RA6/OSC2/CLKO, 32 T1OSO/T13CKI/RC0, 33 (~{{ICRST}/ICVpp)}, 34 (ICPORTS), 35 ~{{UOE}/CCP2/T1OSI/RC1}, 36 P1A/CCP1/RC2, 37 VUSB, 38 SPP0/RD0, 39 SPP1/RD1, 40 SPP2/RD2, 41 SPP3/RD3, 42 VM/D-/RC4, 43 VP/D+/RC5, 44 TX/CK/RC6

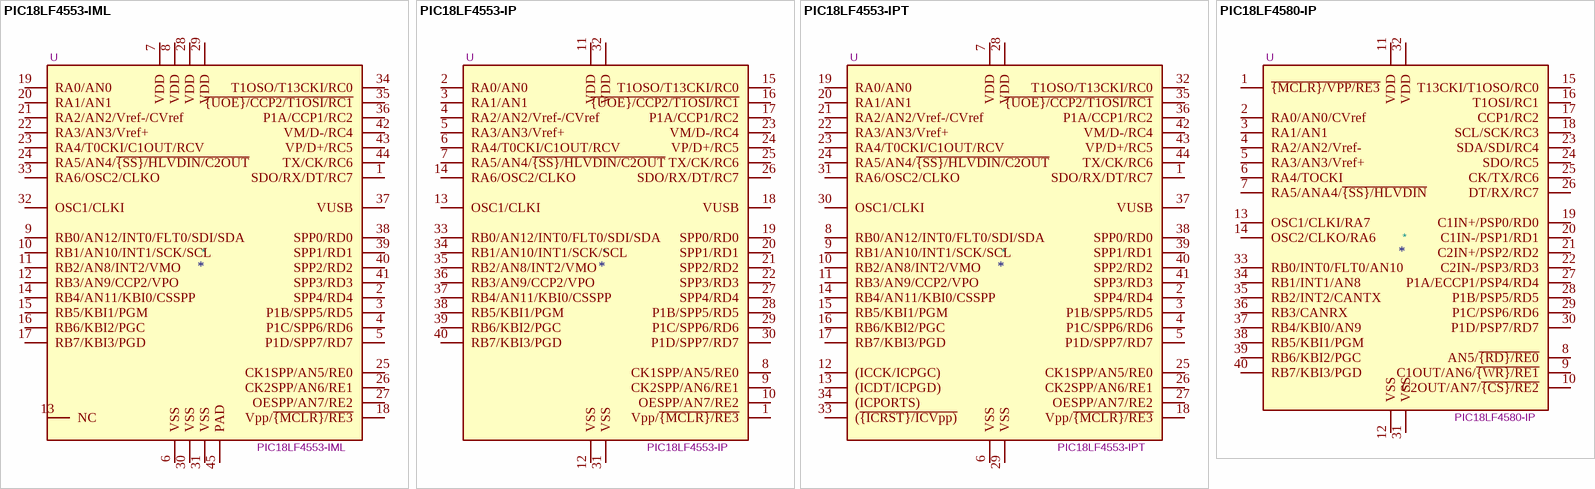
[diagram p16: symbols PIC18LF4553-IML to PIC18LF4580-IP]

## PIC18LF4553-IML
designator *  value PIC18LF4553-IML  Reference: U
32K Flash, 2K SRAM, 256 EEPROM, USB, 12-Bit A/D, nanoWatt XLP, QFN44; ki_keywords: Flash-Based 8-Bit Microcontroller XLP; ki_fp_filters: QFN*1EP*8x8mm*P0.65mm*; Footprint: Package_DFN_QFN:QFN-44-1EP_8x8mm_P0.65mm_EP6.45x6.45mm; Datasheet: http://ww1.microchip.com/downloads/en/DeviceDoc/39887c.pdf; Description_: 32K Flash, 2K SRAM, 256 EEPROM, USB, 12-Bit A/D, nanoWatt XLP, QFN44
pins: 1 SDO/RX/DT/RC7, 2 SPP4/RD4, 3 P1B/SPP5/RD5, 4 P1C/SPP6/RD6, 5 P1D/SPP7/RD7, 6 VSS, 7 VDD, 8 VDD, 9 RB0/AN12/INT0/FLT0/SDI/SDA, 10 RB1/AN10/INT1/SCK/SCL, 11 RB2/AN8/INT2/VMO, 12 RB3/AN9/CCP2/VPO, 13 NC, 14 RB4/AN11/KBI0/CSSPP, 15 RB5/KBI1/PGM, 16 RB6/KBI2/PGC, 17 RB7/KBI3/PGD, 18 Vpp/~{{MCLR}/RE3}, 19 RA0/AN0, 20 RA1/AN1, 21 RA2/AN2/Vref-/CVref, 22 RA3/AN3/Vref+, 23 RA4/T0CKI/C1OUT/RCV, 24 RA5/AN4/~{{SS}/HLVDIN/C2OUT}, 25 CK1SPP/AN5/RE0, 26 CK2SPP/AN6/RE1, 27 OESPP/AN7/RE2, 28 VDD, 29 VDD, 30 VSS, 31 VSS, 32 OSC1/CLKI, 33 RA6/OSC2/CLKO, 34 T1OSO/T13CKI/RC0, 35 ~{{UOE}/CCP2/T1OSI/RC1}, 36 P1A/CCP1/RC2, 37 VUSB, 38 SPP0/RD0, 39 SPP1/RD1, 40 SPP2/RD2, 41 SPP3/RD3, 42 VM/D-/RC4, 43 VP/D+/RC5, 44 TX/CK/RC6, 45 PAD

## PIC18LF4553-IP
designator *  value PIC18LF4553-IP  Reference: U
32K Flash, 2K SRAM, 256 EEPROM, USB, 12-Bit A/D, nanoWatt XLP, DIP40; ki_keywords: Flash-Based 8-Bit Microcontroller XLP; ki_fp_filters: DIP*W15.24mm* PDIP*W15.24mm*; Footprint: Package_DIP:DIP-40_W15.24mm; Datasheet: http://ww1.microchip.com/downloads/en/DeviceDoc/39887c.pdf; Description_: 32K Flash, 2K SRAM, 256 EEPROM, USB, 12-Bit A/D, nanoWatt XLP, DIP40
pins: 1 Vpp/~{{MCLR}/RE3}, 2 RA0/AN0, 3 RA1/AN1, 4 RA2/AN2/Vref-/CVref, 5 RA3/AN3/Vref+, 6 RA4/T0CKI/C1OUT/RCV, 7 RA5/AN4/~{{SS}/HLVDIN/C2OUT}, 8 CK1SPP/AN5/RE0, 9 CK2SPP/AN6/RE1, 10 OESPP/AN7/RE2, 11 VDD, 12 VSS, 13 OSC1/CLKI, 14 RA6/OSC2/CLKO, 15 T1OSO/T13CKI/RC0, 16 ~{{UOE}/CCP2/T1OSI/RC1}, 17 P1A/CCP1/RC2, 18 VUSB, 19 SPP0/RD0, 20 SPP1/RD1, 21 SPP2/RD2, 22 SPP3/RD3, 23 VM/D-/RC4, 24 VP/D+/RC5, 25 TX/CK/RC6, 26 SDO/RX/DT/RC7, 27 SPP4/RD4, 28 P1B/SPP5/RD5, 29 P1C/SPP6/RD6, 30 P1D/SPP7/RD7, 31 VSS, 32 VDD, 33 RB0/AN12/INT0/FLT0/SDI/SDA, 34 RB1/AN10/INT1/SCK/SCL, 35 RB2/AN8/INT2/VMO, 36 RB3/AN9/CCP2/VPO, 37 RB4/AN11/KBI0/CSSPP, 38 RB5/KBI1/PGM, 39 RB6/KBI2/PGC, 40 RB7/KBI3/PGD

## PIC18LF4553-IPT
designator *  value PIC18LF4553-IPT  Reference: U
32K Flash, 2K SRAM, 256 EEPROM, USB, 12-Bit A/D, nanoWatt XLP, TQFP44; ki_keywords: Flash-Based 8-Bit Microcontroller XLP; ki_fp_filters: TQFP*10x10mm*P0.8mm*; Footprint: Package_QFP:TQFP-44_10x10mm_P0.8mm; Datasheet: http://ww1.microchip.com/downloads/en/DeviceDoc/39887c.pdf; Description_: 32K Flash, 2K SRAM, 256 EEPROM, USB, 12-Bit A/D, nanoWatt XLP, TQFP44
pins: 1 SDO/RX/DT/RC7, 2 SPP4/RD4, 3 P1B/SPP5/RD5, 4 P1C/SPP6/RD6, 5 P1D/SPP7/RD7, 6 VSS, 7 VDD, 8 RB0/AN12/INT0/FLT0/SDI/SDA, 9 RB1/AN10/INT1/SCK/SCL, 10 RB2/AN8/INT2/VMO, 11 RB3/AN9/CCP2/VPO, 12 (ICCK/ICPGC), 13 (ICDT/ICPGD), 14 RB4/AN11/KBI0/CSSPP, 15 RB5/KBI1/PGM, 16 RB6/KBI2/PGC, 17 RB7/KBI3/PGD, 18 Vpp/~{{MCLR}/RE3}, 19 RA0/AN0, 20 RA1/AN1, 21 RA2/AN2/Vref-/CVref, 22 RA3/AN3/Vref+, 23 RA4/T0CKI/C1OUT/RCV, 24 RA5/AN4/~{{SS}/HLVDIN/C2OUT}, 25 CK1SPP/AN5/RE0, 26 CK2SPP/AN6/RE1, 27 OESPP/AN7/RE2, 28 VDD, 29 VSS, 30 OSC1/CLKI, 31 RA6/OSC2/CLKO, 32 T1OSO/T13CKI/RC0, 33 (~{{ICRST}/ICVpp)}, 34 (ICPORTS), 35 ~{{UOE}/CCP2/T1OSI/RC1}, 36 P1A/CCP1/RC2, 37 VUSB, 38 SPP0/RD0, 39 SPP1/RD1, 40 SPP2/RD2, 41 SPP3/RD3, 42 VM/D-/RC4, 43 VP/D+/RC5, 44 TX/CK/RC6

## PIC18LF4580-IP
designator *  value PIC18LF4580-IP  Reference: U
32K Flash, 1536B SRAM, 256 EEPROM, ECAN, DIP40; ki_keywords: Flash-Based 8-Bit Microcontroller CAN; ki_fp_filters: DIP*W15.24mm* PDIP*W15.24mm*; Footprint: Package_DIP:DIP-40_W15.24mm; Datasheet: http://ww1.microchip.com/downloads/en/DeviceDoc/39637d.pdf; Description_: 32K Flash, 1536B SRAM, 256 EEPROM, ECAN, DIP40
pins: 1 ~{{MCLR}/VPP/RE3}, 2 RA0/AN0/CVref, 3 RA1/AN1, 4 RA2/AN2/Vref-, 5 RA3/AN3/Vref+, 6 RA4/TOCKI, 7 RA5/ANA4/~{{SS}/HLVDIN}, 8 AN5/~{{RD}/RE0}, 9 C1OUT/AN6/~{{WR}/RE1}, 10 C2OUT/AN7/~{{CS}/RE2}, 11 VDD, 12 VSS, 13 OSC1/CLKI/RA7, 14 OSC2/CLKO/RA6, 15 T13CKI/T1OSO/RC0, 16 T1OSI/RC1, 17 CCP1/RC2, 18 SCL/SCK/RC3, 19 C1IN+/PSP0/RD0, 20 C1IN-/PSP1/RD1, 21 C2IN+/PSP2/RD2, 22 C2IN-/PSP3/RD3, 23 SDA/SDI/RC4, 24 SDO/RC5, 25 CK/TX/RC6, 26 DT/RX/RC7, 27 P1A/ECCP1/PSP4/RD4, 28 P1B/PSP5/RD5, 29 P1C/PSP6/RD6, 30 P1D/PSP7/RD7, 31 VSS, 32 VDD, 33 RB0/INT0/FLT0/AN10, 34 RB1/INT1/AN8, 35 RB2/INT2/CANTX, 36 RB3/CANRX, 37 RB4/KBI0/AN9, 38 RB5/KBI1/PGM, 39 RB6/KBI2/PGC, 40 RB7/KBI3/PGD